# EAGLE library part PICKIT (library PIC18F45J10_Board)
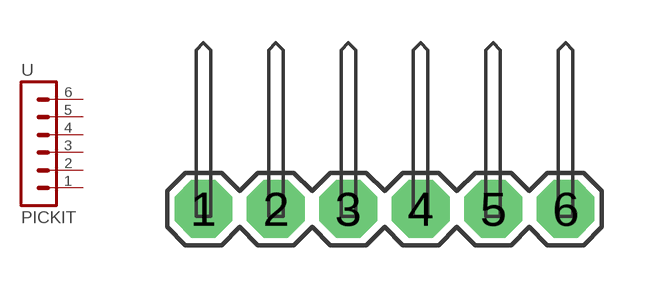
[diagram p9: symbol with the pads of PICKIT; footprint PICKIT]

Designator prefix -

## PICKIT  [PICKIT]
1  1  pas
2  2  pas
3  3  pas
4  4  pas
5  5  pas
6  6  pas

## Footprint PICKIT (pad centres in mm)
drill 1.016 pad 2.032 octagon: 1 -6.35,0; 2 -3.81,0; 3 -1.27,0; 4 1.27,0; 5 3.81,0; 6 6.35,0